# Altium footprint library midithru.PcbLib: 5 footprints
Each footprint in its own frame and in the unit in brackets; x right, y up, seen from the top. Pads: shape width x height; smd on the part's side, far side on the other; paste and mask are expansions set on the pad; w line width, h text height; cw(c..) or ccw(c..) is an arc to the next point about the centre after c.
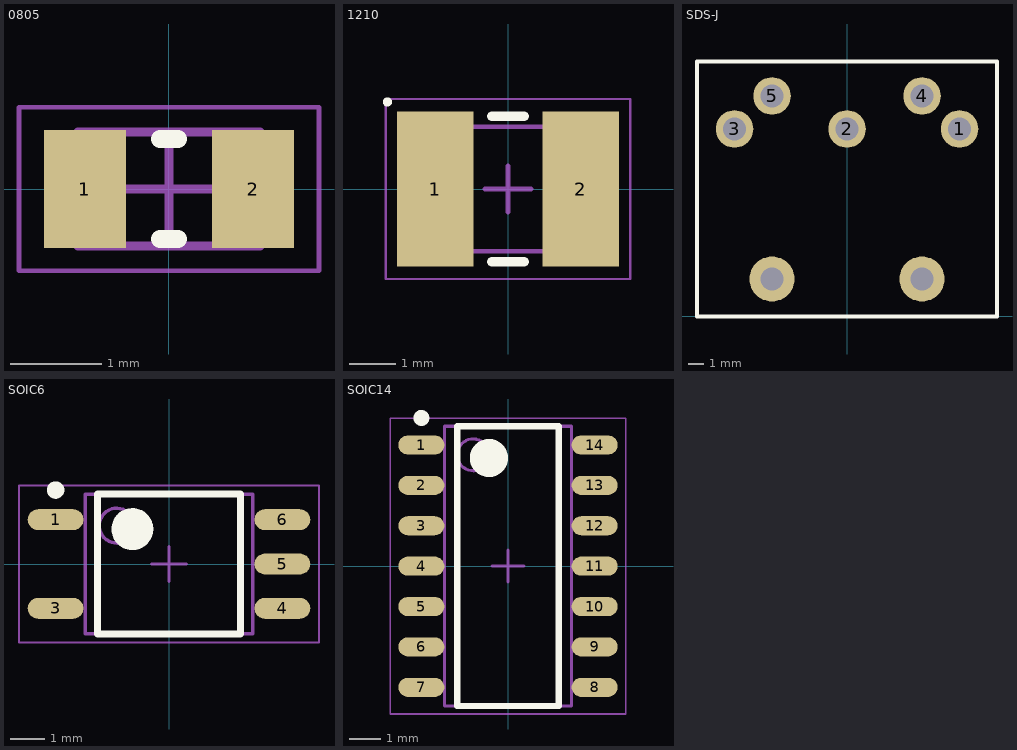
[diagram p0: the footprints below, top view; thin cyan lines are the x and y axes]

## 0805 [mm]
height 0.6
pads (2):
  rect 0.9x1.3 smd: 1(-0.925,0) 2(0.925,0)
Top Overlay:
  lines w0.2: -0.1,-0.55 0.1,-0.55 ; -0.1,0.55 0.1,0.55
Mechanical 13:
  lines w0.1: -1,-0.625 1,-0.625 1,0.625 -1,0.625 -1,-0.625
Mechanical 15:
  lines w0.05: -1.65,-0.9 1.65,-0.9 1.65,0.9 -1.65,0.9 -1.65,-0.9
  lines w0.1: -0.5,0 0.5,0 ; 0,-0.5 0,0.5
3D body: height 0.6, standoff 0, extent 0.5,-0.625 1,0.625
3D body: height 0.6, standoff 0, extent -1,-0.625 -0.5,0.625
3D body: height 0.6, standoff 0, extent -0.5,-0.625 0.5,0.625

## 1210 [mm] "Chip Capacitor, 2-Leads, Body 3.50x2.85mm, IPC Medium Density"
height 0.6
pads (2):
  rect 1.65x3.35 smd: 1(-1.575,0) 2(1.575,0)
Top Overlay:
  circle w0.1: c-2.612,1.887 r0.05
  lines w0.2: -0.35,-1.575 0.35,-1.575 ; -0.35,1.575 0.35,1.575
Mechanical 13:
  lines w0.1: -1.65,-1.35 -1.65,1.35 1.65,1.35 1.65,-1.35 -1.65,-1.35
Mechanical 15:
  lines w0.05: -2.65,-1.95 -2.65,1.95 2.65,1.95 2.65,-1.95 -2.65,-1.95
  lines w0.1: -0.5,0 0.5,0 ; 0,-0.5 0,0.5
3D body: height 0.6, standoff 0, extent -0.8,-1.35 0.8,1.35
3D body: height 0.6, standoff 0, extent -1.65,-1.35 -0.8,1.35
3D body: height 0.6, standoff 0, extent 0.8,-1.35 1.65,1.35

## SDS-J [mm]
pads (7):
  round 2.5 hole 1.55: 1(7.5,12.5) 2(0,12.5) 3(-7.5,12.5) 4(5,14.7) 5(-5,14.7)
  round 3 hole 1.55: ""(-5,2.5) ""(5,2.5)
Top Overlay:
  lines w0.254: -10,0 10,0 10,17 -10,17 -10,0

## SOIC6 [mm]
height 2.3
pads (5):
  oval 1.6x0.6 smd: 1(-3.25,1.27) 3(-3.25,-1.27) 4(3.25,-1.27) 5(3.25,0) 6(3.25,1.27)
Top Overlay:
  circle w0.25: c-3.25,2.12 r0.125
  circle w0.6: c-1.05,1 r0.3
  lines w0.2: -2.05,-2 -2.05,2 2.05,2 2.05,-2 -2.05,-2
Mechanical 13:
  circle w0.1: c-1.5,1.1 r0.5
  lines w0.1: -2.4,-2 -2.4,2 2.4,2 2.4,-2 -2.4,-2
Mechanical 15:
  lines w0.05: -4.3,-2.25 -4.3,2.25 4.3,2.25 4.3,-2.25 -4.3,-2.25
  lines w0.1: -0.5,0 0.5,0 ; 0,-0.5 0,0.5
3D body "SOIC6.step": height 2.3, standoff 0, extent -3.5,-2 3.5,2

## SOIC14 [mm] "SOIC, 14-Leads, Body 8.65x3.90mm, Pitch 1.27mm, IPC Medium Density"
height 1.75
pads (14):
  oval 1.45x0.6 smd: 1(-2.725,3.81) 2(-2.725,2.54) 3(-2.725,1.27) 4(-2.725,0) 5(-2.725,-1.27) 6(-2.725,-2.54) 7(-2.725,-3.81) 8(2.725,-3.81) 9(2.725,-2.54) 10(2.725,-1.27) 11(2.725,0) 12(2.725,1.27) 13(2.725,2.54) 14(2.725,3.81)
Top Overlay:
  circle w0.6: c-0.6,3.4 r0.3
  circle w0.25: c-2.725,4.66 r0.125
  lines w0.2: -1.6,-4.4 1.6,-4.4 1.6,4.4 -1.6,4.4 -1.6,-4.4
Mechanical 13:
  circle w0.1: c-1.1,3.5 r0.5
  lines w0.1: -2,-4.4 2,-4.4 2,4.4 -2,4.4 -2,-4.4
Mechanical 15:
  lines w0.05: -3.7,-4.65 3.7,-4.65 3.7,4.65 -3.7,4.65 -3.7,-4.65
  lines w0.1: -0.5,0 0.5,0 ; 0,-0.5 0,0.5
3D body "SOIC14.step": height 1.75, standoff 0, extent -3,-4.4 3,4.4